# EAGLE library part BTS7004-1EPP (library PROFET - Infineon)
BTS7004-1EPP Smart High-Side Power Switch, 1x4 mΩ SOP65P600X105-15N-1-V
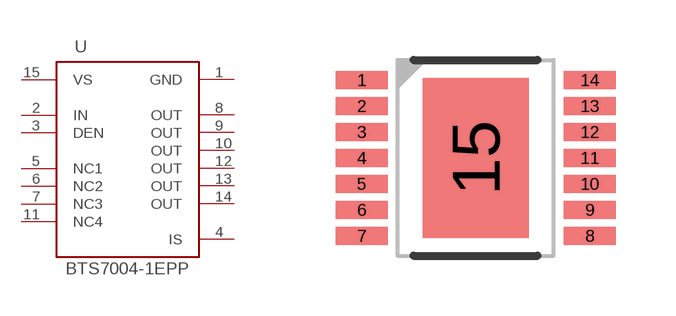
[diagram p67: symbol with the pads of SOP65P600X105-15N-1-V; footprint SOP65P600X105-15N-1-V]

Designator prefix U

## BTS7004-1EPP (MFG: Infineon; MPN: BTS7004-1EPPXUMA1; PACKAGE: PG-TSDSO-14-22; SIZE: 14-TSSOP; VALUE: BTS7004-1)  [SOP65P600X105-15N-1-V]
1  GND  pwr
2  IN  in
3  DEN  in
4  IS  out
5  NC1  pas
6  NC2  pas
7  NC3  pas
8  OUT  out
9  OUT  out
10  OUT  out
11  NC4  pas
12  OUT  out
13  OUT  out
14  OUT  out
15  VS  sup

## Footprint SOP65P600X105-15N-1-V (pad centres in mm)
SOP65P600X105-15N-1-V Max Component Height - 1.05mm
smd 1.31 x 0.45: 1 -2.85,1.95; 2 -2.85,1.3; 3 -2.85,0.65; 4 -2.85,0; 5 -2.85,-0.65; 6 -2.85,-1.3; 7 -2.85,-1.95; 8 2.85,-1.95; 9 2.85,-1.3; 10 2.85,-0.65; 11 2.85,0; 12 2.85,0.65; 13 2.85,1.3; 14 2.85,1.95
smd 2.65 x 4: 15 0,0